# Altium footprint library SMLLX2530SRELCTR.PcbLib: 1 footprints
Each footprint in its own frame and in the unit in brackets; x right, y up, seen from the top. Pads: shape width x height; smd on the part's side, far side on the other; paste and mask are expansions set on the pad; w line width, h text height; cw(c..) or ccw(c..) is an arc to the next point about the centre after c.
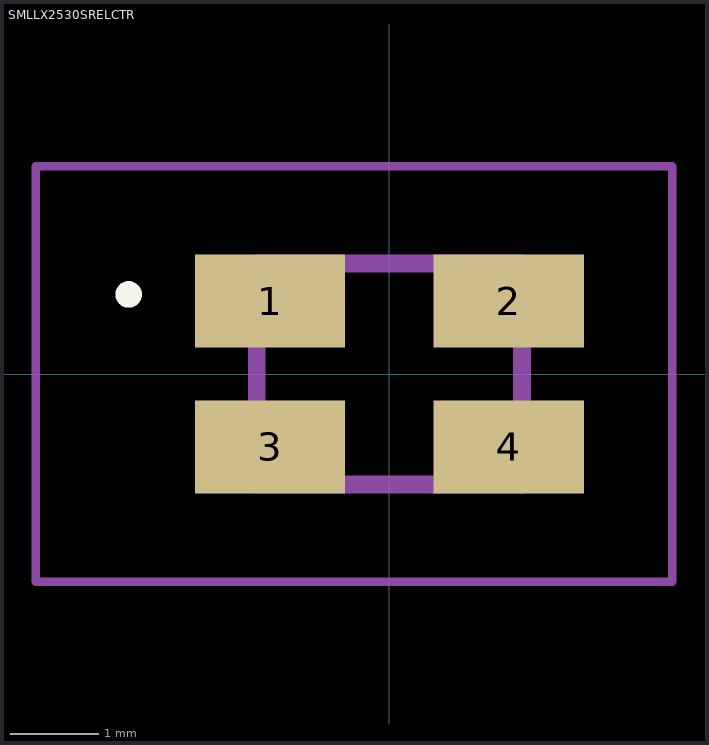
[diagram p0: the footprint, top view; thin cyan lines are the x and y axes]

## SMLLX2530SRELCTR [mm]
pads (4):
  rect 1.7x1.05 smd: 1(-1.35,0.825) 2(1.35,0.825) 3(-1.35,-0.825) 4(1.35,-0.825)
Top Overlay:
  lines w0.2: -3,0.9 -3,0.9 ; -3,0.9 ccw(c-2.95,0.9) -2.9,0.9 ; -3,0.9 cw(c-2.95,0.9) -2.9,0.9 ; -3,0.9 -3,0.9 ; -3,0.9 ccw(c-2.95,0.9) -2.9,0.9 ; -2.9,0.9 -2.9,0.9
Mechanical 15:
  lines w0.2: -1.5,-1.25 1.5,-1.25 1.5,1.25 -1.5,1.25 -1.5,-1.25
Mechanical 20:
  lines w0.1: -4,-2.35 3.2,-2.35 3.2,2.35 -4,2.35 -4,-2.35
3D body "SML-LX2530SRELC-TR.stp": height 5.8, standoff -4.65, extent -10,-3.376 10,3.376